# Altium schematic symbol library RS2MA.SchLib: 1 symbol
Pins are listed as number, name and electrical type; pins without a type are passive.

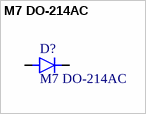
[diagram p0: symbol M7 DO-214AC]

## M7 DO-214AC
designator D?
M7 General Purpose SMD Rectifier Diode SMA (DO-214AC) 1A 1000V 1n4007 RS2MA; MF: Taiwan Semiconductor; SnapEDA_Link: https://www.snapeda.com/parts/RS2MA/Taiwan+Semiconductor/view-part/?ref=snap; Package: DO-214AC-2 Taiwan Semiconductor; Value: *; MP: RS2MA; Check_prices: https://www.snapeda.com/parts/RS2MA/Taiwan+Semiconductor/view-part/?ref=eda
footprint DIOM4325X250N
pins: A, C K